# Altium footprint library Lib Marius.PcbLib: 393 footprints (part 7 of 25)
Each footprint in its own frame and in the unit in brackets; x right, y up, seen from the top. Pads: shape width x height; smd on the part's side, far side on the other; paste and mask are expansions set on the pad; w line width, h text height; cw(c..) or ccw(c..) is an arc to the next point about the centre after c.
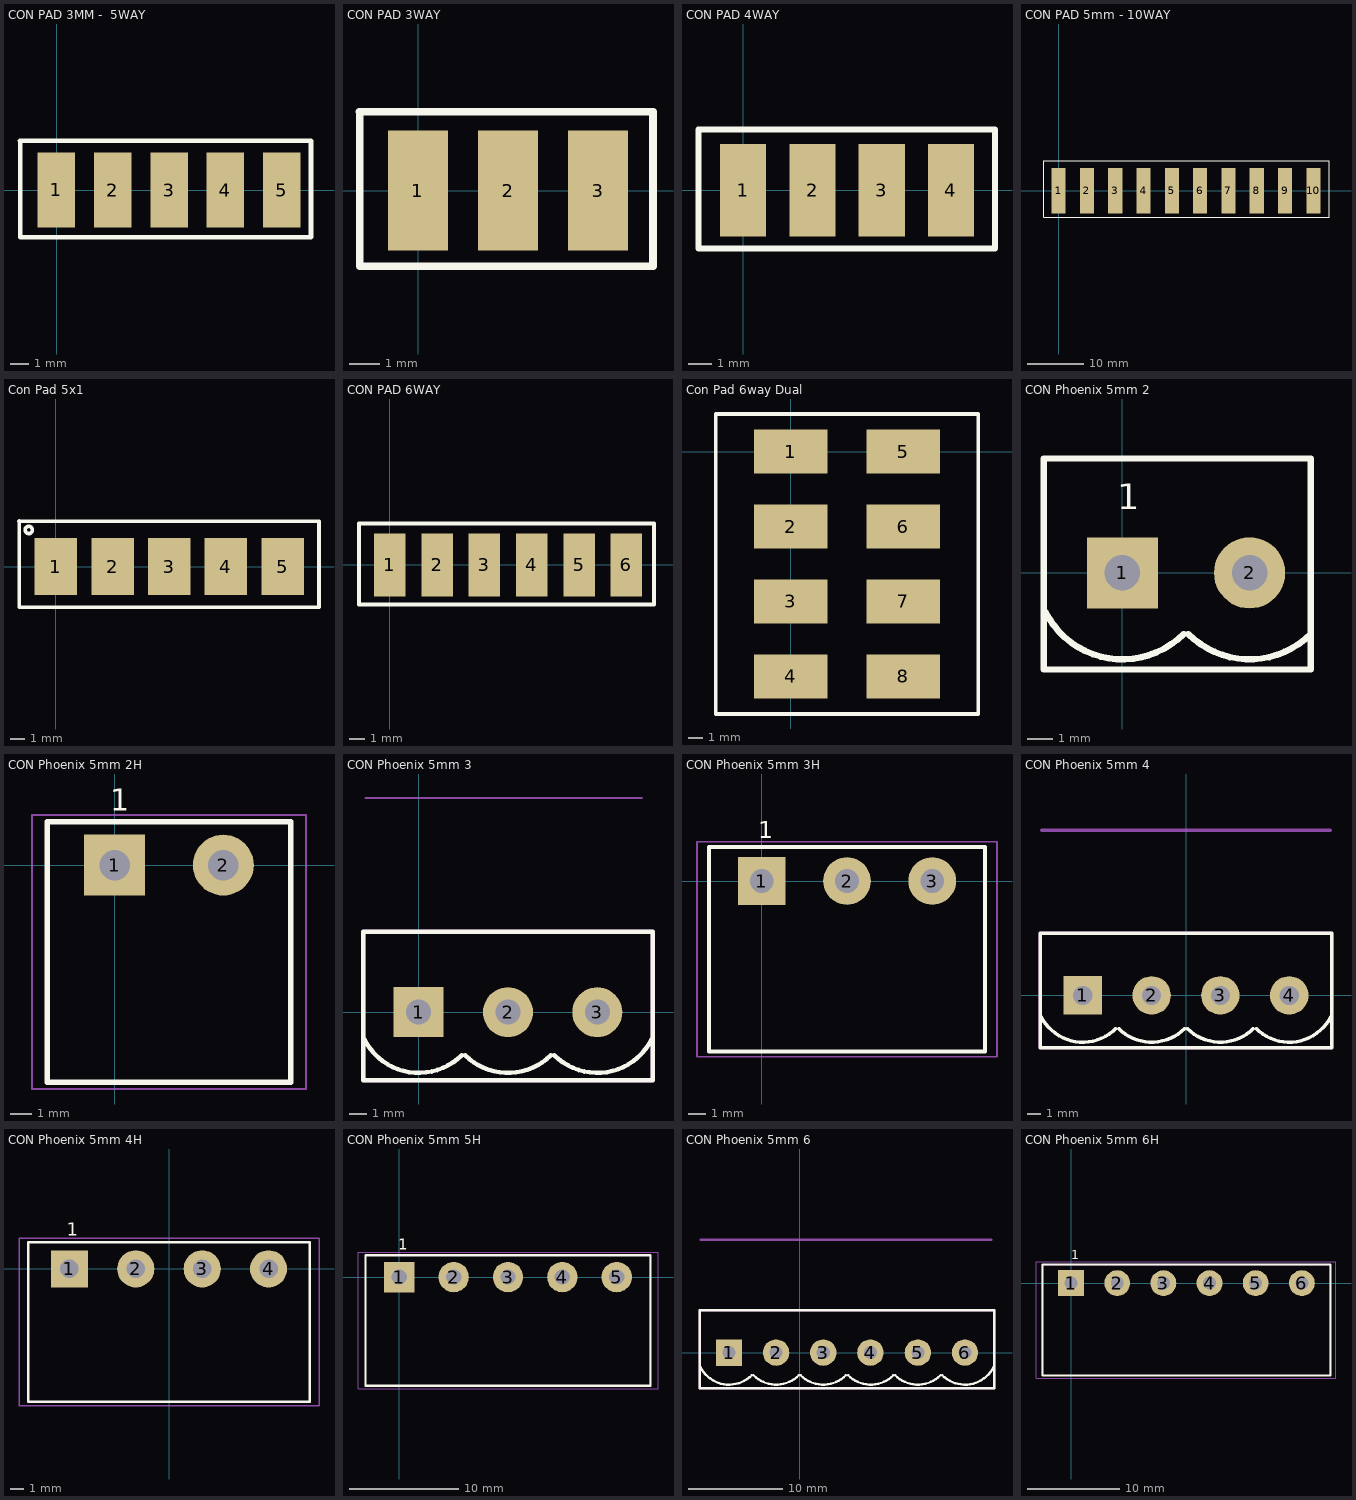
[diagram p6: the footprints below, top view; thin cyan lines are the x and y axes]

## CON PAD 3MM -  5WAY [mm] "Pads 3mm Pitch"
pads (5):
  rect 2x4 smd: 1(-0.009,0.003) 2(3,0) 3(6,0) 4(9,0) 5(12,0)
Top Overlay:
  lines w0.254: -1.958,2.633 13.571,2.633 13.571,-2.521 -1.947,-2.521 -1.947,2.633

## CON PAD 3WAY [mm] "Pads 3mm Pitch"
pads (3):
  rect 2x4 smd: 1(-0.009,0.003) 2(3,0) 3(6,0)
Top Overlay:
  lines w0.254: -1.958,2.633 7.833,2.633 7.833,-2.521 -1.947,-2.521 -1.947,2.633

## CON PAD 4WAY [mm] "Pads 2mm pitch"
pads (4):
  rect 2x4 smd: 1(-0.009,0.003) 2(3,0) 3(6,0) 4(9,0)
Top Overlay:
  lines w0.254: -1.958,2.633 10.921,2.633 10.921,-2.521 -1.947,-2.521 -1.947,2.633

## CON PAD 5mm - 10WAY [mm] "Pads 2mm pitch"
pads (10):
  rect 2.5x8 smd: 1(-0.009,0.003) 2(5,0) 3(10,0) 4(15,0) 5(20,0) 6(25,0) 7(30,0) 8(35,0) 9(40,0) 10(45,0)
Top Overlay:
  lines w0.2: -2.6,-4.7 47.8,-4.7 47.8,5.3 -2.6,5.3 -2.6,-4.7

## Con Pad 5x1 [mm] "Rectangle Pads Connector 5 Way"
height 2
pads (5):
  rect 3x4 smd: 1(0,0) 2(4,0) 3(8,0) 4(12,0) 5(16,0)
Top Overlay:
  circle w0.254: c-1.917,2.582 r0.257
  lines w0.254: -2.606,3.199 18.566,3.199 18.566,-2.86 -2.588,-2.86 -2.588,3.217

## CON PAD 6WAY [mm] "Pads 3mm Pitch"
pads (6):
  rect 2x4 smd: 1(-0.009,0.003) 2(3,0) 3(6,0) 4(9,0) 5(12,0) 6(15,0)
Top Overlay:
  lines w0.254: -1.958,2.633 16.755,2.633 16.755,-2.521 -1.947,-2.521 -1.947,2.633

## Con Pad 6way Dual [mm] "RGBW General Connection"
height 5.46
pads (8):
  rect 5x3 smd: 1(0,0) 2(0,-5.08) 3(0,-10.16) 4(0,-15.24) 5(7.62,0) 6(7.62,-5.08) 7(7.62,-10.16) 8(7.62,-15.24)
Top Overlay:
  lines w0.254: -5.08,-17.78 -5.08,2.54 12.7,2.54 12.7,-17.78 -5.08,-17.78

## CON Phoenix 5mm 2 [mm] "Connector, Header, 2way, 5mm pitch"
height 8.3
pads (2):
  rect 2.8x2.8 hole 1.4: 1(0,0)
  round 2.8 hole 1.4: 2(5,0)
Top Overlay:
  lines w0.254: -3.041,-1.521 ccw(c0,0) 2.404,-2.404 ; 2.596,-2.404 ccw(c5,0) 7.404,-2.404 ; -3.1,-3.8 -3.1,4.5 7.404,4.5 7.404,-3.8 -3.1,-3.8
  text "1" at -0.2,2.5 h1
Bottom Overlay:
  text "1" at 0.1,2.4 h1

## CON Phoenix 5mm 2H [mm] "Connector, Header, Right angle, 2way, 5mm pitch"
height 8.3
pads (2):
  rect 2.8x2.8 hole 1.4: 1(0,0)
  round 2.8 hole 1.4: 2(5,0)
Top Overlay:
  lines w0.254: -3.1,-10 -3.1,2 8.1,2 8.1,-10 -3.1,-10
  text ".Designator" at 3.4,3.1 h1.5
  text "1" at -0.2,2.5 h1
Bottom Overlay:
  text "1" at 0.1,2.4 h1
Mechanical 13:
  lines w0.1: -3.1,-10 -3.1,2 8.1,2 8.1,-10 -3.1,-10
Mechanical 15:
  lines w0.1: -3.8,-10.3 8.8,-10.3 8.8,2.3 -3.8,2.3 -3.8,-10.3
3D body "Camden_CTB9350_2A.stp": height 8.6, standoff -3.5, extent -3.5,-10 8.5,2

## CON Phoenix 5mm 3 [mm] "Connector, Header, verticle, 3way, 5mm pitch"
height 12
pads (3):
  rect 2.8x2.8 hole 1.4: 1(0,0)
  round 2.8 hole 1.4: 2(5,0) 3(10,0)
Top Overlay:
  lines w0.254: -3.041,-1.521 ccw(c0,0) 2.404,-2.404 ; 2.596,-2.404 ccw(c5,0) 7.404,-2.404 ; 7.596,-2.404 ccw(c10,0) 13.041,-1.521 ; -3.1,-3.8 -3.1,4.5 13.1,4.5 13.1,-3.8 -3.1,-3.8
  text ".Designator" at -0.8,6.2 h1.5
Mechanical 13:
  lines w0.254: -3.1,-3.8 -3.1,4.5 13.1,4.5 13.1,-3.8 -3.1,-3.8
Mechanical 15:
  lines w0.1: -3,12 12.5,12
3D body "camden-CTB9300-3A.STEP": height 12, standoff -3.9, extent -3.099,-3.799 13.101,4.501

## CON Phoenix 5mm 3H [mm] "Connector, Header, Right angle, 3way, 5mm pitch"
height 8.3
pads (3):
  rect 2.8x2.8 hole 1.4: 1(0,0)
  round 2.8 hole 1.4: 2(5,0) 3(10,0)
Top Overlay:
  lines w0.254: -3.1,-10 -3.1,2 13.1,2 13.1,-10 -3.1,-10
  text "1" at -0.2,2.5 h1
Bottom Overlay:
  text "1" at 0.1,2.4 h1
Mechanical 13:
  lines w0.1: -3.1,-10 -3.1,2 13.1,2 13.1,-10 -3.1,-10
Mechanical 15:
  lines w0.1: -3.8,-10.3 13.8,-10.3 13.8,2.3 -3.8,2.3 -3.8,-10.3
3D body "Camden_CTB9350_3A.stp": height 8.6, standoff -3.5, extent -3.5,-10 13.5,2

## CON Phoenix 5mm 4 [mm] "Connector, Header, verticle, 4way, 5mm pitch"
height 12
pads (4):
  rect 2.8x2.8 hole 1.4: 1(-7.5,0)
  round 2.8 hole 1.4: 2(-2.5,0) 3(2.5,0) 4(7.5,0)
Top Overlay:
  lines w0.254: -10.541,-1.521 ccw(c-7.5,0) -5.096,-2.404 ; -4.904,-2.404 ccw(c-2.5,0) -0.096,-2.404 ; 0.096,-2.404 ccw(c2.5,0) 4.904,-2.404 ; 5.096,-2.404 ccw(c7.5,0) 10.541,-1.521 ; -10.6,-3.8 10.6,-3.8 10.6,4.5 -10.6,4.5 -10.6,-3.8
  text ".Designator" at -8.8,5.375 h1.5
Mechanical 13:
  lines w0.254: -10.6,-3.8 10.6,-3.8 10.6,4.5 -10.6,4.5 -10.6,-3.8
Mechanical 15:
  lines w0.254: -10.5,12 10.5,12
3D body "camden-CTB9300-4A.STEP": height 12, standoff -3.9, extent -10.599,-3.799 10.601,4.501

## CON Phoenix 5mm 4H [mm] "Connector, Header, Right angle, 4way, 5mm pitch"
height 8.3
pads (4):
  rect 2.8x2.8 hole 1.4: 1(-7.5,0)
  round 2.8 hole 1.4: 2(-2.5,0) 3(2.5,0) 4(7.5,0)
Top Overlay:
  lines w0.2: -10.6,-10 10.6,-10 10.6,2 -10.6,2 -10.6,-10
  text "1" at -7.7,2.5 h1
  text ".Designator" at -3.8,2.6 h1.5
Bottom Overlay:
  text "1" at -7.85,2.35 h1
Mechanical 13:
  lines w0.1: -10.6,-10 10.6,-10 10.6,2 -10.6,2 -10.6,-10
Mechanical 15:
  lines w0.1: -11.3,-10.3 -11.3,2.3 11.3,2.3 11.3,-10.3 -11.3,-10.3
3D body "Camden_CTB9350_4A.stp": height 8.6, standoff -3.5, extent -11,-10 11,2

## CON Phoenix 5mm 5H [mm] "Connector, Header, Right angle, 5way, 5mm pitch"
height 8.3
pads (5):
  rect 2.8x2.8 hole 1.4: 1(0,0)
  round 2.8 hole 1.4: 2(5,0) 3(10,0) 4(15,0) 5(20,0)
Top Overlay:
  lines w0.2: -3.1,-10 -3.1,2 23.1,2 23.1,-10 -3.1,-10
  text "1" at -0.1,2.5 h1
  text ".Designator" at 2.8,2.9 h1.5
Bottom Overlay:
  text "1" at 0,2.6 h1
Mechanical 13:
  lines w0.1: -3.1,-10 -3.1,2 23.1,2 23.1,-10 -3.1,-10
Mechanical 15:
  lines w0.1: -3.8,-10.3 -3.8,2.3 23.8,2.3 23.8,-10.3 -3.8,-10.3
3D body "Camden_CTB9350_5A.stp": height 8.6, standoff -3.5, extent -3.525,-10 23.475,2

## CON Phoenix 5mm 6 [mm] "Connector, Header, verticle, 6way, 5mm pitch"
height 12
pads (6):
  rect 2.8x2.8 hole 1.4: 1(-7.5,0)
  round 2.8 hole 1.4: 2(-2.5,0) 3(2.5,0) 4(7.5,0) 5(12.54,0) 6(17.54,0)
Top Overlay:
  lines w0.254: -10.541,-1.521 ccw(c-7.5,0) -5.096,-2.404 ; -4.904,-2.404 ccw(c-2.5,0) -0.096,-2.404 ; 0.096,-2.404 ccw(c2.5,0) 4.904,-2.404 ; 5.136,-2.404 ccw(c7.54,0) 9.944,-2.404 ; 10.136,-2.404 ccw(c12.54,0) 14.944,-2.404 ; 15.136,-2.404 ccw(c17.54,0) 20.581,-1.521 ; -10.6,-3.8 20.64,-3.8 20.64,4.5 -10.6,4.5 -10.6,-3.8
  text ".Designator" at -8.1,5.675 h1.5
Mechanical 13:
  lines w0.254: -10.6,-3.8 20.64,-3.8 20.64,4.5 -10.6,4.5 -10.6,-3.8
Mechanical 15:
  lines w0.254: -10.5,12 20.32,12
3D body "camden-CTB9300-6A.STEP": height 12, standoff -3.9, extent -10.599,-3.799 20.601,4.501

## CON Phoenix 5mm 6H [mm] "Connector, Header, Right angle, 6way, 5mm pitch"
height 8.3
pads (6):
  rect 2.8x2.8 hole 1.4: 1(0,0)
  round 2.8 hole 1.4: 2(5,0) 3(10,0) 4(15,0) 5(20,0) 6(25,0)
Top Overlay:
  lines w0.2: -3.1,-10 -3.1,2 28.1,2 28.1,-10 -3.1,-10
  text ".Designator" at 3.2,3 h1.5
  text "1" at 0,2.6 h1
Bottom Overlay:
  text "1" at -0.7,2.6 h1
Mechanical 13:
  lines w0.1: -3.1,-10 -3.1,2 28.1,2 28.1,-10 -3.1,-10
Mechanical 15:
  lines w0.1: -3.8,-10.3 -3.8,2.3 28.7,2.3 28.7,-10.3 -3.8,-10.3
3D body "Camden_CTB9350_6A.stp": height 8.6, standoff -3.5, extent -3.525,-10 28.475,2